# Altium schematic symbol library Schematic_IC_Sensors.SchLib: 4 symbols
Pins are listed as number, name and electrical type; pins without a type are passive.

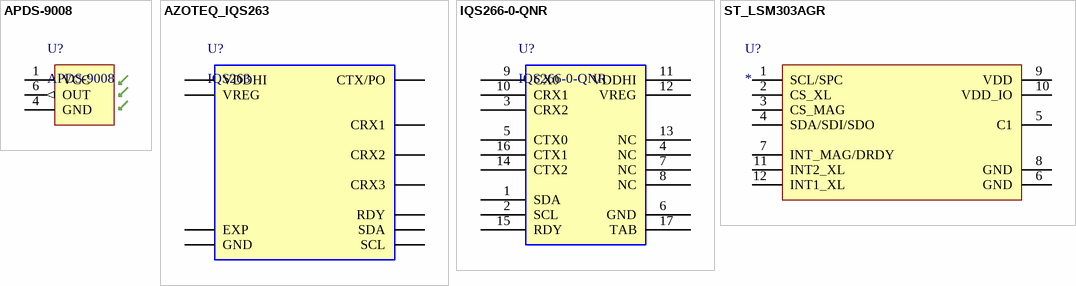
[diagram p0: symbols APDS-9008 to ST_LSM303AGR]

## APDS-9008
designator U?
Optical Sensor Ambient 565nm Current 6-SMD, No Lead
pins: 1 VCC, 4 GND, 6 OUT (out)

## AZOTEQ_IQS263
designator U?, comment IQS263
3 Channel Capacitive Touch Sensor. Capacitive Touch Buttons, Slider, Wheel 10-DFN (3x3)
pins: 1 GND, 2 CRX1, 3 CRX2, 4 VDDHI, 5 VREG, 6 RDY, 7 SDA, 8 SCL, 9 CRX3, 10 CTX/PO, 11 EXP

## IQS266-0-QNR
designator U?
TOUCH SCREEN CONTROLLERS 2X3 CAP; Manufacturer: Azoteq (Pty); Manufacturer Part Number: IQS266-0-QNR; RoHS: No
footprint QFN50P300X300X80-16L_HS170 (QFN, 16-Leads, Body 3.00x3.00mm, Pitch 0.50mm, Thermal Pad 1.70x1.70mm, IPC High Density)
pins: 1 SDA, 2 SCL, 3 CRX2, 4 NC, 5 CTX0, 6 GND, 7 NC, 8 NC, 9 CX0, 10 CRX1, 11 VDDHI, 12 VREG, 13 NC, 14 CTX2, 15 RDY, 16 CTX1, 17 TAB

## ST_LSM303AGR
designator U?
Accelerometer, Magnetometer, Temperature, 3 Axis Sensor I²C, SPI Output
pins: 1 SCL/SPC, 2 CS_XL, 3 CS_MAG, 4 SDA/SDI/SDO, 5 C1, 6 GND, 7 INT_MAG/DRDY, 8 GND, 9 VDD, 10 VDD_IO, 11 INT2_XL, 12 INT1_XL